# Altium schematic symbol library JohansonTechnology.SchLib: 4 symbols
Pins are listed as number, name and electrical type; pins without a type are passive.

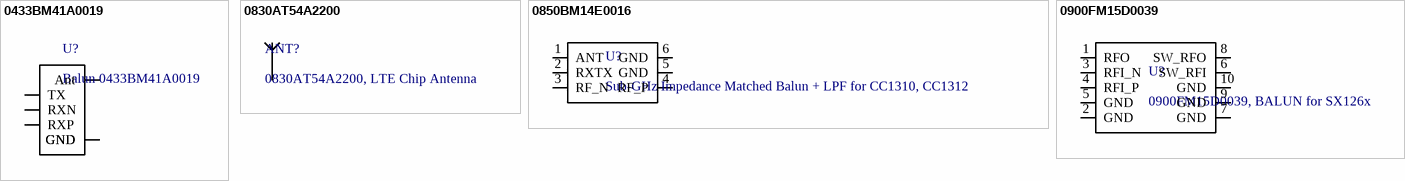
[diagram p0: symbols 0433BM41A0019 to 0900FM15D0039]

## 0433BM41A0019
designator U?, comment Balun 0433BM41A0019
Manufacturer: Johanson Technology; Part Number: 0433BM41A0019
footprint 0433BM41A0019
pins: 1 GND, 2 Ant, 3 GND, 4 GND, 5 GND, 6 TX, 7 RXN, 8 RXP

## 0830AT54A2200
designator ANT?, comment 0830AT54A2200, LTE Chip Antenna
Manufacturer: Johanson Technology; Part Number: 0830AT54A2200
pins: 1 ANT, 2 hidden

## 0850BM14E0016
designator U?, comment Sub-GHz Impedance Matched Balun + LPF for CC1310, CC1312
Manufacturer: Johanson Technology; Part Number: 0850BM14E0016; Price 1: 0.44; Price 100: 0.30; Price 1000: 0.19
pins: 1 ANT, 2 RXTX, 3 RF_N, 4 RF_P, 5 GND, 6 GND

## 0900FM15D0039
designator U?, comment 0900FM15D0039, BALUN for SX126x
Manufacturer: Johanson Technology; Part Number: 0900FM15D0039; Price 1: 0.44; Price 100: 0.28; Price 1000: 0.24
footprint 0900FM15D0039
pins: 1 RFO, 2 GND, 3 RFI_N, 4 RFI_P, 5 GND, 6 SW_RFI, 7 GND, 8 SW_RFO, 9 GND, 10 GND